# EAGLE library part PIC16F873 (library FP-21T for MITS)
PIC16F873 use akizuki zif socket
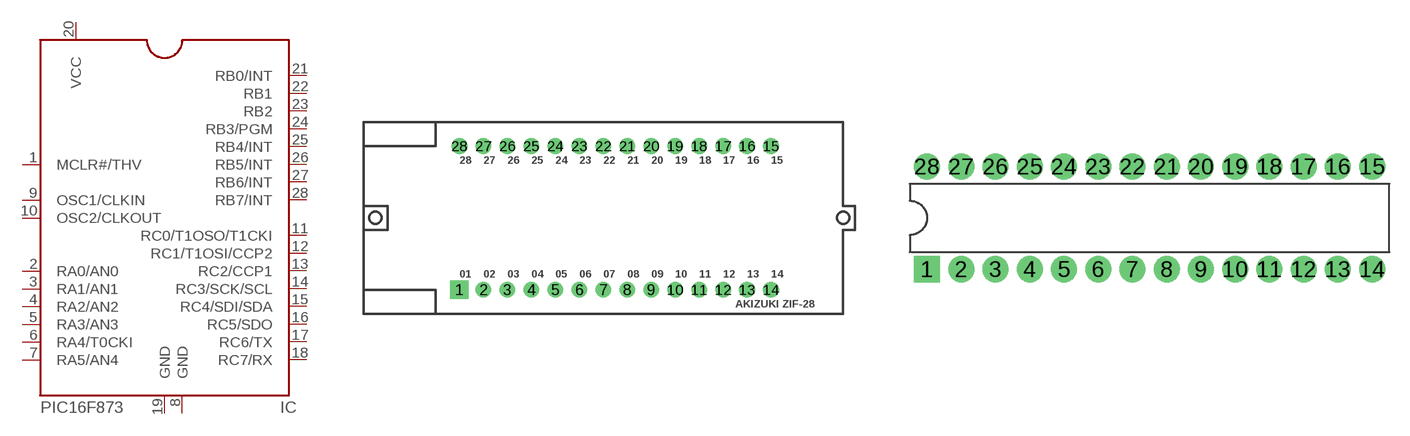
[diagram p5: symbol with the pads of AKI-ZIF28; footprints AKI-ZIF28, DIL28-3]

Designator prefix IC

## PIC16F873ZIF  [AKI-ZIF28]
1  MCLR#/THV
2  RA0/AN0
3  RA1/AN1
4  RA2/AN2
5  RA3/AN3
6  RA4/T0CKI
7  RA5/AN4
8  GND  pwr
9  OSC1/CLKIN
10  OSC2/CLKOUT  out
11  RC0/T1OSO/T1CKI
12  RC1/T1OSI/CCP2
13  RC2/CCP1
14  RC3/SCK/SCL
15  RC4/SDI/SDA
16  RC5/SDO
17  RC6/TX
18  RC7/RX
19  GND  pwr
20  VCC  pwr
21  RB0/INT
22  RB1
23  RB2
24  RB3/PGM
25  RB4/INT
26  RB5/INT
27  RB6/INT
28  RB7/INT

## PIC16F873DIP  [DIL28-3]
Pads as for AKI-ZIF28

## Footprint AKI-ZIF28 (pad centres in mm)
drill 0.8 pad 1.93 square: 1 -16.51,-7.62
drill 0.8 pad 1.676: 2 -13.97,-7.62; 3 -11.43,-7.62; 4 -8.89,-7.62; 5 -6.35,-7.62; 6 -3.81,-7.62; 7 -1.27,-7.62; 8 1.27,-7.62; 9 3.81,-7.62; 10 6.35,-7.62; 11 8.89,-7.62; 12 11.43,-7.62; 13 13.97,-7.62; 14 16.51,-7.62; 15 16.51,7.62; 16 13.97,7.62; 17 11.43,7.62; 18 8.89,7.62; 19 6.35,7.62; 20 3.81,7.62; 21 1.27,7.62; 22 -1.27,7.62; 23 -3.81,7.62; 24 -6.35,7.62; 25 -8.89,7.62; 26 -11.43,7.62; 27 -13.97,7.62; 28 -16.51,7.62

## Footprint DIL28-3 (pad centres in mm)
Dual In Line package type P
drill 1 pad 1.93 square: 1 -16.51,-3.81
drill 1 pad 1.93: 2 -13.97,-3.81; 3 -11.43,-3.81; 4 -8.89,-3.81; 5 -6.35,-3.81; 6 -3.81,-3.81; 7 -1.27,-3.81; 8 1.27,-3.81; 9 3.81,-3.81; 10 6.35,-3.81; 11 8.89,-3.81; 12 11.43,-3.81; 13 13.97,-3.81; 14 16.51,-3.81; 15 16.51,3.81; 16 13.97,3.81; 17 11.43,3.81; 18 8.89,3.81; 19 6.35,3.81; 20 3.81,3.81; 21 1.27,3.81; 22 -1.27,3.81; 23 -3.81,3.81; 24 -6.35,3.81; 25 -8.89,3.81; 26 -11.43,3.81; 27 -13.97,3.81; 28 -16.51,3.81